# Altium footprint library BLE_ADS_062819.PcbLib: 20 footprints (part 2 of 2)
Each footprint in its own frame and in the unit in brackets; x right, y up, seen from the top. Pads: shape width x height; smd on the part's side, far side on the other; paste and mask are expansions set on the pad; w line width, h text height; cw(c..) or ccw(c..) is an arc to the next point about the centre after c.
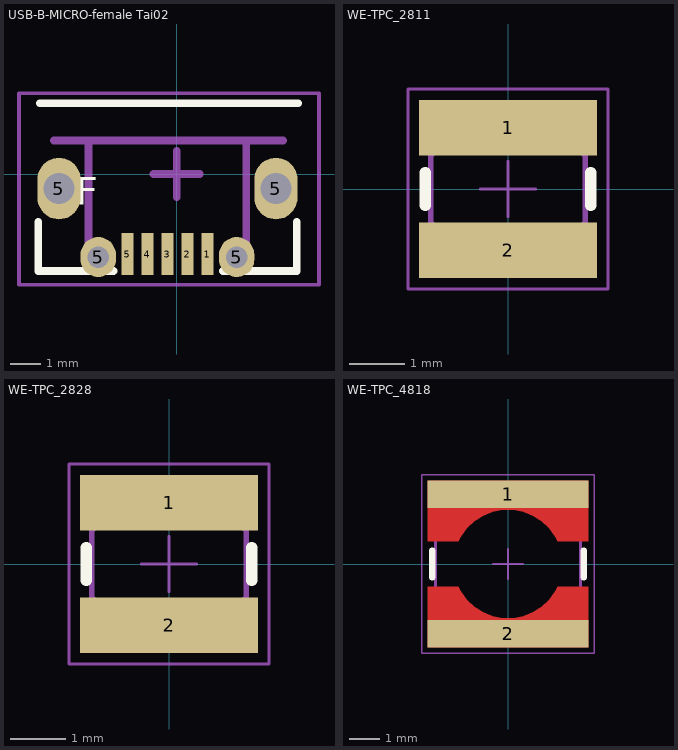
[diagram p1: the footprints below, top view; thin cyan lines are the x and y axes]

## USB-B-MICRO-female Tai02 [mm] "micro usb female type B"
height 2.25
pads (9):
  rect 0.4x1.35 smd: 1(1,-2.6) 2(0.35,-2.6) 3(-0.3,-2.6) 4(-0.95,-2.6) 5(-1.6,-2.6)
  oval 1.4x2 hole 1: 5(-3.825,-0.475) 5(3.225,-0.475)
  oval 1.15x1.3 hole 0.7: 5(-2.55,-2.7) 5(1.95,-2.7)
Top Overlay:
  lines w0.254: -4.5,-1.55 -4.5,-3.15 -2.05,-3.15 ; -4.45,2.3 3.95,2.3 ; 1.5,-3.15 3.9,-3.15 3.9,-1.55
  text "B-F" at -4.55,-1 h0.9
Mechanical 1:
  lines w0.254: -3.988,1.092 3.454,1.092 ; -2.87,-2.362 -2.87,1.067 ; 2.261,-2.362 2.261,0.991
Mechanical 15:
  lines w0.127: -5.125,-3.6 4.625,-3.6 4.625,2.625 -5.125,2.625 -5.125,-3.6
  lines w0.254: -0.75,0 0,0 ; 0,-0.75 0,0 ; 0,0.75 0,0 ; 0.75,0 0,0

## WE-TPC_2811 [mm] "Power Inductor, SMD, 2-Leads, body 2.78x2.78mm"
height 1.2
pads (2):
  rect 3.2x1 smd: 1(0,1.1) 2(0,-1.1)
Top Overlay:
  lines w0.2: -1.49,-0.3 -1.49,0.3 ; 1.49,-0.3 1.49,0.3
Mechanical 13:
  lines w0.1: -1.39,-0.6 -0.6,-1.39 0.6,-1.39 1.39,-0.6 1.39,0.6 0.6,1.39 -0.6,1.39 -1.39,0.6 -1.39,-0.6
Mechanical 15:
  lines w0.05: -0.5,0 0.5,0 ; 0,-0.5 0,0.5 ; -1.8,-1.8 1.8,-1.8 1.8,1.8 -1.8,1.8 -1.8,-1.8
3D body "STEP-WE-TPC-2811-rev1.stp": height 1.16, standoff 0, extent -1.39,-1.39 1.39,1.39

## WE-TPC_2828 [mm] "Power Inductor, SMD, 2-Leads, body 2.8x2.8mm"
height 3
pads (2):
  rect 3.2x1 smd: 1(0,1.1) 2(0,-1.1)
Top Overlay:
  lines w0.2: -1.49,-0.3 -1.49,0.3 ; 1.49,-0.3 1.49,0.3
Mechanical 13:
  lines w0.1: -1.39,-0.6 -0.6,-1.39 0.6,-1.39 1.39,-0.6 1.39,0.6 0.6,1.39 -0.6,1.39 -1.39,0.6 -1.39,-0.6
Mechanical 15:
  lines w0.05: -0.5,0 0.5,0 ; 0,-0.5 0,0.5 ; -1.8,-1.8 1.8,-1.8 1.8,1.8 -1.8,1.8 -1.8,-1.8
3D body "744025xxx.stp": height 2.82, standoff 0.02, extent -1.4,-1.4 1.4,1.4

## WE-TPC_4818 [mm] "Power Inductor, SMD, 2-Leads, body 4.8x4.8mm"
height 2
pads (2):
  rect 5.3x0.9 smd paste-403.566 mask-403.566: 1(0,2.3) 2(0,-2.3)
Top Layer:
  region: -2.65,0.75 -1.636,0.75 -1.558,0.902 -1.359,1.18 -1.112,1.416 -0.824,1.6 -0.506,1.727 -0.171,1.792 0.171,1.792 0.507,1.727 0.824,1.6 1.112,1.416 1.359,1.18 1.558,0.902 1.636,0.75 2.65,0.75 2.65,2.75 -2.65,2.75
  region: 2.65,-0.75 1.636,-0.75 1.558,-0.902 1.359,-1.18 1.112,-1.416 0.824,-1.6 0.506,-1.727 0.171,-1.792 -0.171,-1.792 -0.507,-1.727 -0.824,-1.6 -1.112,-1.416 -1.359,-1.18 -1.558,-0.902 -1.636,-0.75 -2.65,-0.75 -2.65,-2.75 2.65,-2.75
Top Overlay:
  lines w0.2: -2.5,-0.45 -2.5,0.45 ; 2.5,-0.45 2.5,0.45
Mechanical 13:
  lines w0.1: -2.4,-2.4 2.4,-2.4 2.4,2.4 -2.4,2.4 -2.4,-2.4
Mechanical 15:
  lines w0.05: -0.5,0 0.5,0 ; 0,-0.5 0,0.5 ; -2.85,-2.95 2.85,-2.95 2.85,2.95 -2.85,2.95 -2.85,-2.95
3D body "744042xxx.stp": height 1.8, standoff 0, extent -2.4,-2.4 2.4,2.4